# Altium integrated library Digital_IC.IntLib: 32 symbols
Pins are listed as number, name and electrical type; pins without a type are passive.

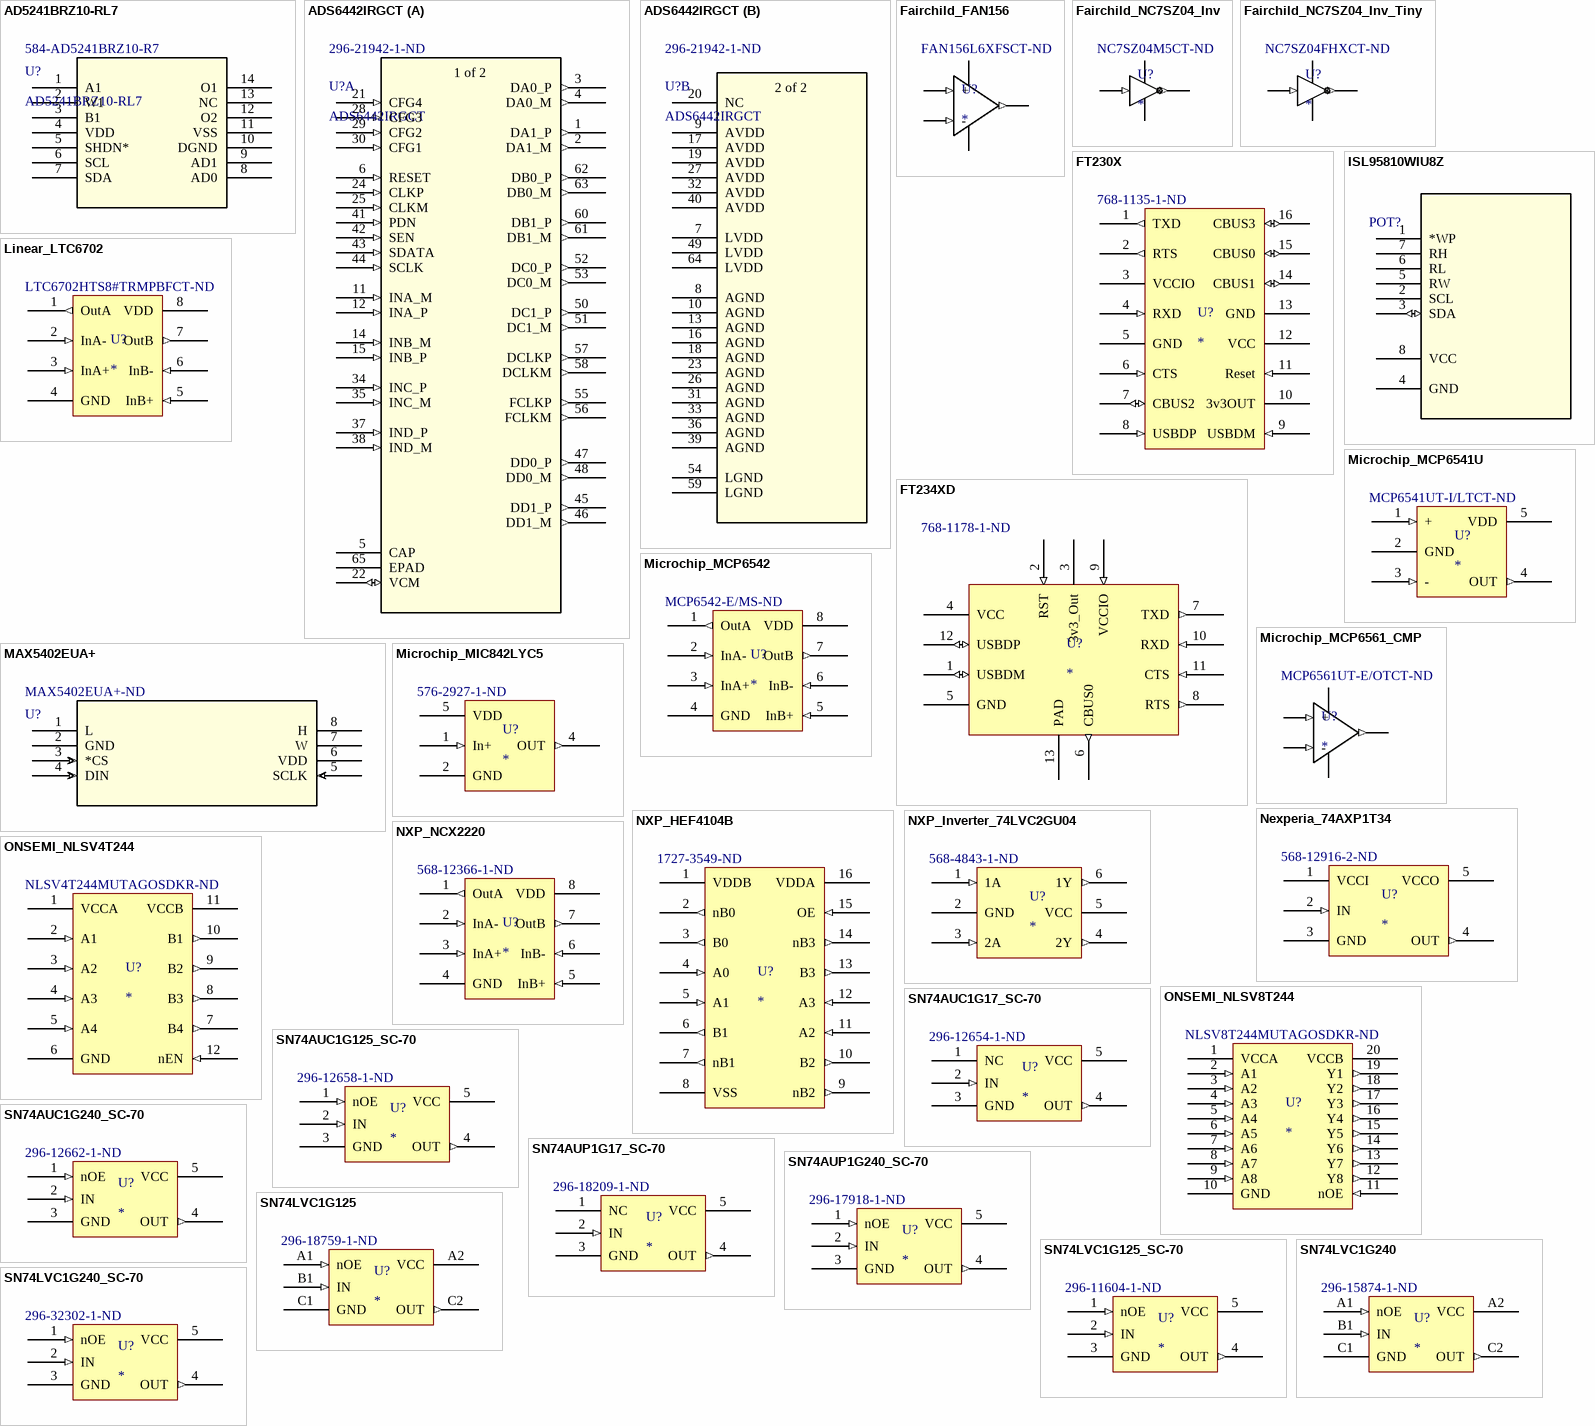
[diagram p0: symbols AD5241BRZ10-RL7 to SN74LVC1G240_SC-70]

## AD5241BRZ10-RL7
designator U?  Supplier Part Number 1: 584-AD5241BRZ10-R7
Digital Potentiometer 10k Ohm 1 Circuit 256 Taps I²C Interface 14-SOIC; Mfr_Name: Analog Devices Inc; Copyright: Copyright (C) 2021 Ultra Librarian. All rights reserved.; Manufacturer_Part_Number: AD5241BRZ10-RL7; Digi-Key_Part_Number_1: AD5241BRZ10-RL7CT-ND; Digi-Key_Part_Number_2: AD5241BRZ10-RL7DKR-ND; Digi-Key_Part_Number_3: AD5241BRZ10-RL7TR-ND; Digi-Key_Part_Number_4: 2156-AD5241BRZ10-RL7-ND; RefDes: RefDes; Type: DEV; Supplier 1: Mouser
footprint R_14_ADI
pins: 1 A1, 2 W1, 3 B1, 4 VDD (power), 5 SHDN*, 6 SCL, 7 SDA, 8 AD0, 9 AD1, 10 DGND, 11 VSS (power), 12 O2, 13 NC, 14 O1

## ADS6442IRGCT
designator U?  Supplier Part Number 1: 296-21942-1-ND
14 Bit Analog to Digital Converter 4 Input 4 Pipelined 64-VQFN (9x9); Mfr_Name: Texas Instruments; Copyright: Copyright (C) 2021 Ultra Librarian. All rights reserved.; Manufacturer_Part_Number: ADS6442IRGCT; RefDes: RefDes; Type: DEV; Supplier 1: Digi-Key
footprint TI_ADS6442IRGCT_64VQFN (IC ADC 14BIT PIPELINED 64VQFN)
part A pins: 1 DA1_P (out), 2 DA1_M (out), 3 DA0_P (out), 4 DA0_M (out), 5 CAP, 6 RESET (in), 11 INA_M (in), 12 INA_P (in), 14 INB_M (in), 15 INB_P (in), 21 CFG4 (in), 22 VCM (io), 24 CLKP (in), 25 CLKM (in), 28 CFG3 (in), 29 CFG2 (in), 30 CFG1 (in), 34 INC_P (in), 35 INC_M (in), 37 IND_P (in), 38 IND_M (in), 41 PDN (in), 42 SEN (in), 43 SDATA (in), 44 SCLK (in), 45 DD1_P (out), 46 DD1_M (out), 47 DD0_P (out), 48 DD0_M (out), 50 DC1_P (out), 51 DC1_M (out), 52 DC0_P (out), 53 DC0_M (out), 55 FCLKP (out), 56 FCLKM (out), 57 DCLKP (out), 58 DCLKM (out), 60 DB1_P (out), 61 DB1_M (out), 62 DB0_P (out), 63 DB0_M (out), 65 EPAD
part B pins: 7 LVDD (power), 8 AGND (power), 9 AVDD (power), 10 AGND (power), 13 AGND (power), 16 AGND (power), 17 AVDD (power), 18 AGND (power), 19 AVDD (power), 20 NC, 23 AGND (power), 26 AGND (power), 27 AVDD (power), 31 AGND (power), 32 AVDD (power), 33 AGND (power), 36 AGND (power), 39 AGND (power), 40 AVDD (power), 49 LVDD (power), 54 LGND (power), 59 LGND (power), 64 LVDD (power)
part A text: 1 of 2
part B text: 2 of 2

## Fairchild_FAN156
designator U?  Supplier Part Number 1: FAN156L6XFSCT-ND
Low Voltage Comparator; Supplier 1: Digi-Key
footprint Fairchild_FAN156_PSON6 (PSON, 6-Leads, Body 1.45x1.00mm, Pitch 0.50mm, IPC High Density)
pins: 1 OUT (out), 2 VSS (power), 3 + (in), 4 - (in), 6 VDD (power)

## Fairchild_NC7SZ04_Inv
designator U?  Supplier Part Number 1: NC7SZ04M5CT-ND
Inverter; Supplier 1: Digi-Key
footprint Microchip_MCP6561_SOT23-5 (SOT23, 5-Leads, Body 2.90x2.70mm, Pitch 0.95mm, IPC High Density)
pins: 2 A (in), 3 GND (power), 4 Y (out), 5 VCC (power)

## Fairchild_NC7SZ04_Inv_Tiny
designator U?  Supplier Part Number 1: NC7SZ04FHXCT-ND
Inverter Tiny; Supplier 1: Digi-Key
footprint Fairchild_NC7SZ04_PSON1x1mm_6 (PSON, 6-Leads, Body 1.00x1.00mm, Pitch 0.35mm, IPC High Density)
pins: 2 A (in), 3 GND (power), 4 Y (out), 6 VCC (power)

## FT230X
designator U?  Supplier Part Number 1: 768-1135-1-ND
USB to UART; Supplier 1: Digi-Key
footprint FTDI_F230X (SOP, 16-Leads, Body 4.90x3.90mm, Pitch 0.64mm, IPC High Density)
pins: 1 TXD (out), 2 RTS (out), 3 VCCIO (power), 4 RXD (in), 5 GND (power), 6 CTS (in), 7 CBUS2 (io), 8 USBDP (in), 9 USBDM (in), 10 3v3OUT (power), 11 Reset (in), 12 VCC (power), 13 GND (power), 14 CBUS1 (io), 15 CBUS0 (io), 16 CBUS3 (io)

## FT234XD
designator U?  Supplier Part Number 1: 768-1178-1-ND
USB to UART; Supplier 1: Digikey
footprint FT234XD-R SON-12 (SON, 12-Leads, Body 3.00x3.00mm, Pitch 0.45mm, Thermal Pad 2.48x1.58mm, IPC High Density)
pins: 1 USBDM (io), 2 RST (in), 3 3v3_Out (power), 4 VCC (power), 5 GND (power), 6 CBUS0 (out), 7 TXD (out), 8 RTS (out), 9 VCCIO (in), 10 RXD (in), 11 CTS (in), 12 USBDP (io), 13 PAD (power)

## ISL95810WIU8Z
designator POT?  (value not drawn)
Digital Potentiometer 10k Ohm 1 Circuit 256 Taps I²C Interface 8-MSOP; Mfr_Name: Intersil; Manufacturer_Part_Number: ISL95810WIU8Z; Digi-Key_Part_Number_1: ISL95810WIU8Z-ND; Digi-Key_Part_Number_2: 2156-ISL95810WIU8Z-ND; ComponentLink1Description: Digikey; ComponentLink1URL: https://www.digikey.com/en/products/detail/renesas-electronics-america-inc/ISL95810WIU8Z/1034860; ComponentLink2Description: Datasheet; ComponentLink2URL: https://www.renesas.com/us/en/document/dst/isl95810-datasheet
footprint MSOP8_3P05X3P05_INR
pins: 1 *WP, 2 SCL, 3 SDA (io), 4 GND (power), 5 RW, 6 RL, 7 RH, 8 VCC (power)

## Linear_LTC6702
designator U?  Supplier Part Number 1: LTC6702HTS8#TRMPBFCT-ND
Dual Low Voltage Comparators, 500ns; Supplier 1: Digikey
footprint LTC_LTC6702_TS8 (TSOP, 8-Leads, Body 2.90x1.63mm, Pitch 0.65mm, IPC High Density)
pins: 1 OutA (out), 2 InA- (in), 3 InA+ (in), 4 GND (power), 5 InB+ (in), 6 InB- (in), 7 OutB (out), 8 VDD (power)

## MAX5402EUA+
designator U?  Supplier Part Number 1: MAX5402EUA+-ND  (hidden comment: MAX5402EUA+)
Digital Potentiometer 10k Ohm 1 Circuit 256 Taps SPI Interface 8-uMAX-EP|8-uSOP-EP; Mfr_Name: Maxim Integrated Products; Copyright: Copyright (C) 2021 Ultra Librarian. All rights reserved.; Manufacturer_Part_Number: MAX5402EUA+; Digi-Key_Part_Number_1: MAX5402EUA+-ND; RefDes: RefDes; Type: DEV; Supplier 1: Digi-Key
footprint MAXIM_MAX5402EUA+_8-MSOP (IC DGTL POT 10KOHM 256TAP 8UMAX)
footprint MAXIM_MAX5402EUA+_8-MSOP-L (IC DGTL POT 10KOHM 256TAP 8UMAX)
footprint MAXIM_MAX5402EUA+_8-MSOP-M (IC DGTL POT 10KOHM 256TAP 8UMAX)
pins: 1 L, 2 GND (power), 3 *CS (in), 4 DIN (in), 5 SCLK (in), 6 VDD (power), 7 W, 8 H

## Microchip_MCP6541U
designator U?  Supplier Part Number 1: MCP6541UT-I/LTCT-ND
sub1uA comparator PP; Supplier 1: Digi-Key
footprint TI_SN74LVC1G125/240_SOT235 (SOT23, 5-Leads, Body 2.00x2.10mm, Pitch 0.65mm, IPC High Density)
pins: 1 + (in), 2 GND (power), 3 - (in), 4 OUT (out), 5 VDD (power)

## Microchip_MCP6542
designator U?  Supplier Part Number 1: MCP6542-E/MS-ND
Dual Low Voltage Comparators, 4us; Supplier 1: Digikey
footprint Microchip_MCP6542_MSOP-8 (TSOP, 8-Leads, Body 3.00x3.00mm, Pitch 0.65mm, IPC High Density)
pins: 1 OutA (out), 2 InA- (in), 3 InA+ (in), 4 GND (power), 5 InB+ (in), 6 InB- (in), 7 OutB (out), 8 VDD (power)

## Microchip_MCP6561_CMP
designator U?  Supplier Part Number 1: MCP6561UT-E/OTCT-ND
1.8v PP Comparator; Supplier 1: Digi-Key
footprint Microchip_MCP6561_SOT23-5 (SOT23, 5-Leads, Body 2.90x2.70mm, Pitch 0.95mm, IPC High Density)
pins: 1 + (in), 2 VSS (power), 3 - (in), 4 OUT (out), 5 VDD (power)

## Microchip_MIC842LYC5
designator U?  Supplier Part Number 1: 576-2927-1-ND
Comparator w/1.24v reference Active High; Supplier 1: Digi-Key
footprint Microcihp_MIC842_SC70-5 (SOT23, 5-Leads, Body 2.03x2.10mm, Pitch 0.65mm, IPC High Density)
pins: 1 In+ (in), 2 GND (power), 4 OUT (out), 5 VDD (power)

## Nexperia_74AXP1T34
designator U?  Supplier Part Number 1: 568-12916-2-ND
Unidirectoinal Level shifter; Supplier 1: Digikey
footprint Microcihp_MIC842_SC70-5 (SOT23, 5-Leads, Body 2.03x2.10mm, Pitch 0.65mm, IPC High Density)
pins: 1 VCCI (power), 2 IN (in), 3 GND (power), 4 OUT (out), 5 VCCO (power)

## NXP_HEF4104B
designator U?  Supplier Part Number 1: 1727-3549-ND
4Bit Unidirectional Level Shifter; Supplier 1: Digi-Key
footprint NXP_HEF4104B_SOIC16 (SOIC, 16-Leads, Body 9.90x3.90mm, Pitch 1.27mm, IPC High Density)
pins: 1 VDDB (power), 2 nB0 (out), 3 B0 (out), 4 A0 (in), 5 A1 (in), 6 B1 (out), 7 nB1 (out), 8 VSS (power), 9 nB2 (out), 10 B2 (out), 11 A2 (in), 12 A3 (in), 13 B3 (out), 14 nB3 (out), 15 OE (in), 16 VDDA (power)

## NXP_Inverter_74LVC2GU04
designator U?  Supplier Part Number 1: 568-4843-1-ND
Supplier 1: Digi-Key
footprint NXP_74LVC2GU04_TSOP6 (TSOP, 6-Leads, Body 2.90x1.50mm, Pitch 0.95mm, IPC High Density)
pins: 1 1A (in), 2 GND (power), 3 2A (in), 4 2Y (out), 5 VCC (power), 6 1Y (out)

## NXP_NCX2220
designator U?  Supplier Part Number 1: 568-12366-1-ND
Dual Low Voltage Comparators, 800ns; Supplier 1: Digikey
footprint NXP_NCX2220_TSSOP8 (TSOP, 8-Leads, Body 3.00x3.00mm, Pitch 0.65mm, IPC High Density)
pins: 1 OutA (out), 2 InA- (in), 3 InA+ (in), 4 GND (power), 5 InB+ (in), 6 InB- (in), 7 OutB (out), 8 VDD (power)

## ONSEMI_NLSV4T244
designator U?  Supplier Part Number 1: NLSV4T244MUTAGOSDKR-ND
4Bit Unidirectional Shifter; Supplier 1: Digi-Key
footprint ONSEMI_NLSV4T244 (PQFN, 12-Leads, Body 1.70x2.00mm, Pitch 0.40mm, IPC High Density)
pins: 1 VCCA (power), 2 A1 (in), 3 A2 (in), 4 A3 (in), 5 A4 (in), 6 GND (power), 7 B4 (out), 8 B3 (out), 9 B2 (out), 10 B1 (out), 11 VCCB (power), 12 nEN (in)

## ONSEMI_NLSV8T244
designator U?  Supplier Part Number 1: NLSV8T244MUTAGOSDKR-ND
8Bit Unidirectional Shifter; Supplier 1: Digi-Key
footprint ONSEMI_NLSV8T244 (SON, 20-Leads, Body 4.00x2.00mm, Pitch 0.40mm, IPC High Density)
pins: 1 VCCA (power), 2 A1 (in), 3 A2 (in), 4 A3 (in), 5 A4 (in), 6 A5 (in), 7 A6 (in), 8 A7 (in), 9 A8 (in), 10 GND (power), 11 nOE (in), 12 Y8 (out), 13 Y7 (out), 14 Y6 (out), 15 Y5 (out), 16 Y4 (out), 17 Y3 (out), 18 Y2 (out), 19 Y1 (out), 20 VCCB (power)

## SN74AUC1G17_SC-70
designator U?  Supplier Part Number 1: 296-12654-1-ND
Single Schmidtt Buffer; Supplier 1: Digi-Key
footprint TI_SN74LVC1G125/240_SOT235 (SOT23, 5-Leads, Body 2.00x2.10mm, Pitch 0.65mm, IPC High Density)
pins: 1 NC, 2 IN (in), 3 GND (power), 4 OUT (out), 5 VCC (power)

## SN74AUC1G125_SC-70
designator U?  Supplier Part Number 1: 296-12658-1-ND
Single Bit Buffer Gate nINV 3state; Supplier 1: Digi-Key
footprint TI_SN74LVC1G125/240_SOT235 (SOT23, 5-Leads, Body 2.00x2.10mm, Pitch 0.65mm, IPC High Density)
pins: 1 nOE (in), 2 IN (in), 3 GND (power), 4 OUT (out), 5 VCC (power)

## SN74AUC1G240_SC-70
designator U?  Supplier Part Number 1: 296-12662-1-ND
Single Bit Buffer Gate INV 3state; Supplier 1: Digi-Key
footprint TI_SN74LVC1G125/240_SOT235 (SOT23, 5-Leads, Body 2.00x2.10mm, Pitch 0.65mm, IPC High Density)
pins: 1 nOE (in), 2 IN (in), 3 GND (power), 4 OUT (out), 5 VCC (power)

## SN74AUP1G17_SC-70
designator U?  Supplier Part Number 1: 296-18209-1-ND
Single Schmidtt Buffer; Supplier 1: Digi-Key
footprint TI_SN74LVC1G125/240_SOT235 (SOT23, 5-Leads, Body 2.00x2.10mm, Pitch 0.65mm, IPC High Density)
pins: 1 NC, 2 IN (in), 3 GND (power), 4 OUT (out), 5 VCC (power)

## SN74AUP1G240_SC-70
designator U?  Supplier Part Number 1: 296-17918-1-ND
Single Bit Buffer Gate INV 3state; Supplier 1: Digi-Key
footprint TI_SN74LVC1G125/240_SOT235 (SOT23, 5-Leads, Body 2.00x2.10mm, Pitch 0.65mm, IPC High Density)
pins: 1 nOE (in), 2 IN (in), 3 GND (power), 4 OUT (out), 5 VCC (power)

## SN74LVC1G125
designator U?  Supplier Part Number 1: 296-18759-1-ND
Single Bit Buffer Gate nINV 3state; Supplier 1: Digi-Key
footprint TI_sn74lvc1g125/240_XBGA5 (BGA, 5-Leads, Body 0.90x1.40mmx0.50mm, Pitch 0.50mm)
pins: A1 nOE (in), A2 VCC (power), B1 IN (in), C1 GND (power), C2 OUT (out)

## SN74LVC1G125_SC-70
designator U?  Supplier Part Number 1: 296-11604-1-ND
Single Bit Buffer Gate nINV 3state; Supplier 1: Digi-Key
footprint TI_SN74LVC1G125/240_SOT235 (SOT23, 5-Leads, Body 2.00x2.10mm, Pitch 0.65mm, IPC High Density)
pins: 1 nOE (in), 2 IN (in), 3 GND (power), 4 OUT (out), 5 VCC (power)

## SN74LVC1G240
designator U?  Supplier Part Number 1: 296-15874-1-ND
Single Bit Buffer Gate INV 3state; Supplier 1: Digi-Key
footprint TI_sn74lvc1g125/240_XBGA5 (BGA, 5-Leads, Body 0.90x1.40mmx0.50mm, Pitch 0.50mm)
pins: A1 nOE (in), A2 VCC (power), B1 IN (in), C1 GND (power), C2 OUT (out)

## SN74LVC1G240_SC-70
designator U?  Supplier Part Number 1: 296-32302-1-ND
Single Bit Buffer Gate INV 3state; Supplier 1: Digi-Key
footprint TI_SN74LVC1G125/240_SOT235 (SOT23, 5-Leads, Body 2.00x2.10mm, Pitch 0.65mm, IPC High Density)
pins: 1 nOE (in), 2 IN (in), 3 GND (power), 4 OUT (out), 5 VCC (power)

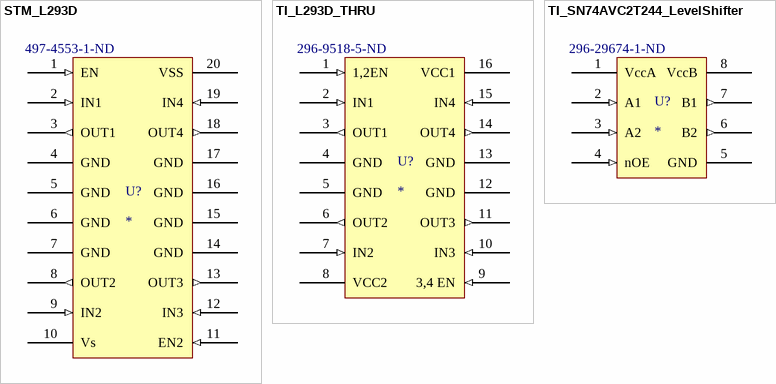
[diagram p1: symbols STM_L293D to TI_SN74AVC2T244_LevelShifter]

## STM_L293D
designator U?  Supplier Part Number 1: 497-4553-1-ND
600mA Quad Motor Driver; Supplier 1: Digi-Key
pins: 1 EN (in), 2 IN1 (in), 3 OUT1 (out), 4 GND (power), 5 GND (power), 6 GND (power), 7 GND (power), 8 OUT2 (out), 9 IN2 (in), 10 Vs (power), 11 EN2 (in), 12 IN3 (in), 13 OUT3 (out), 14 GND (power), 15 GND (power), 16 GND (power), 17 GND (power), 18 OUT4 (out), 19 IN4 (in), 20 VSS (power)

## TI_L293D_THRU
designator U?  Supplier Part Number 1: 296-9518-5-ND
600mA Quad Motor Driver THRUHOLE; Supplier 1: Digi-Key
footprint TI_L293D_THRU
pins: 1 1,2EN (in), 2 IN1 (in), 3 OUT1 (out), 4 GND (power), 5 GND (power), 6 OUT2 (out), 7 IN2 (in), 8 VCC2 (power), 9 3,4 EN (in), 10 IN3 (in), 11 OUT3 (out), 12 GND (power), 13 GND (power), 14 OUT4 (out), 15 IN4 (in), 16 VCC1 (power)

## TI_SN74AVC2T244_LevelShifter
designator U?  Supplier Part Number 1: 296-29674-1-ND
Supplier 1: Digi-Key
footprint TI_SN74AVC2T244_QFN8 (QFN, 8-Leads, Body 1.00x1.40mm, Pitch 0.35mm, IPC High Density)
pins: 1 VccA (power), 2 A1 (in), 3 A2 (in), 4 nOE (in), 5 GND (power), 6 B2 (out), 7 B1 (out), 8 VccB (power)